# EAGLE library part VDIP1 (library jason-test)
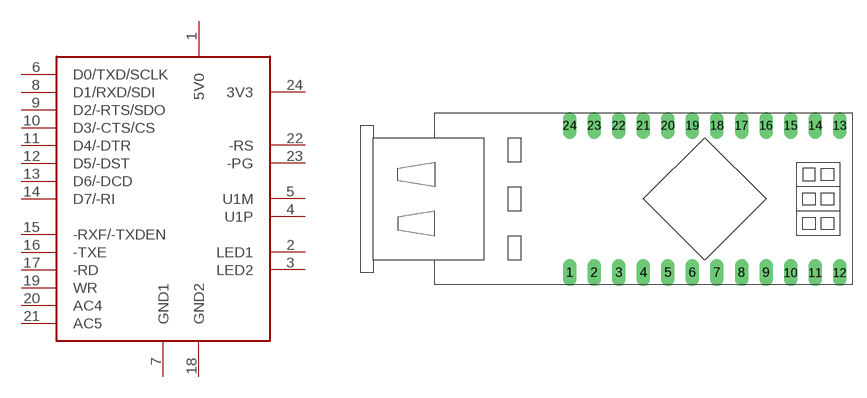
[diagram p23: symbol with the pads of VDIP1; footprint VDIP1]

Designator prefix -

## VDIP1  [VDIP1]
1  5V0  pwr
2  LED1  out
3  LED2  out
4  U1P
5  U1M
6  D0/TXD/SCLK
7  GND1  pwr
8  D1/RXD/SDI
9  D2/-RTS/SDO
10  D3/-CTS/CS
11  D4/-DTR
12  D5/-DST
13  D6/-DCD
14  D7/-RI
15  -RXF/-TXDEN
16  -TXE
17  -RD
18  GND2  pwr
19  WR
20  AC4
21  AC5
22  -RS  in
23  -PG  in
24  3V3

## Footprint VDIP1 (pad centres in mm)
Vinculum VDIP1 http://www.vinculum.com/images/vdip1-001.jpg
drill 0.8 pad 1.397 long: 1 0,-7.62; 2 2.54,-7.62; 3 5.08,-7.62; 4 7.62,-7.62; 5 10.16,-7.62; 6 12.7,-7.62; 7 15.24,-7.62; 8 17.78,-7.62; 9 20.32,-7.62; 10 22.86,-7.62; 11 25.4,-7.62; 12 27.94,-7.62; 13 27.94,7.62; 14 25.4,7.62; 15 22.86,7.62; 16 20.32,7.62; 17 17.78,7.62; 18 15.24,7.62; 19 12.7,7.62; 20 10.16,7.62; 21 7.62,7.62; 22 5.08,7.62; 23 2.54,7.62; 24 0,7.62